# Altium footprint library ELP.PcbLib: 7 footprints
Each footprint in its own frame and in the unit in brackets; x right, y up, seen from the top. Pads: shape width x height; smd on the part's side, far side on the other; paste and mask are expansions set on the pad; w line width, h text height; cw(c..) or ccw(c..) is an arc to the next point about the centre after c.
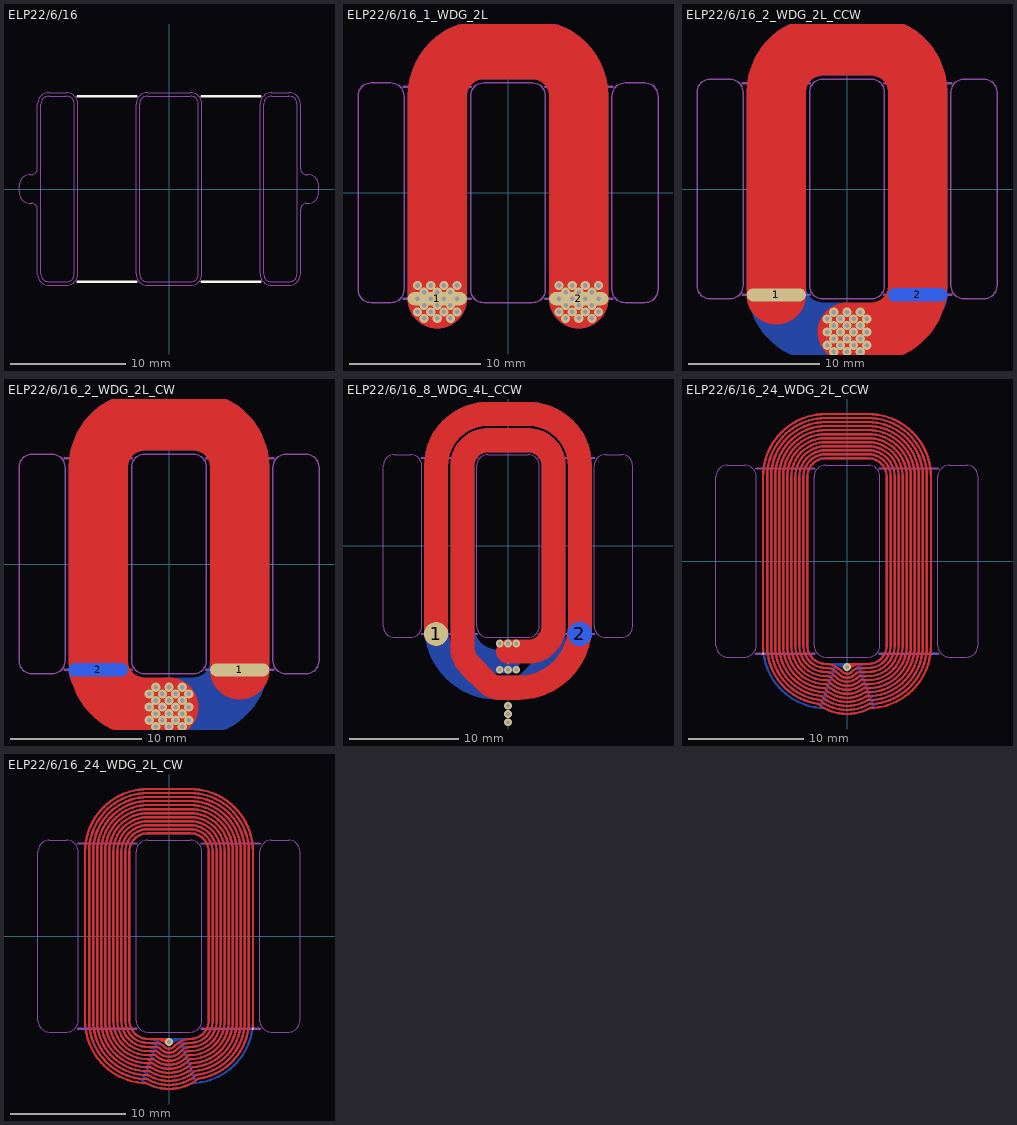
[diagram p0: the footprints below, top view; thin cyan lines are the x and y axes]

## ELP22/6/16 [mm]
Top Overlay:
  lines w0.2: -7.9,-8.05 -2.85,-8.05 ; -7.9,8.05 -2.85,8.05 ; 2.85,-8.05 7.9,-8.05 ; 2.85,8.05 7.9,8.05
Board:
  lines w0.1: -13,-0.252 -13,0.25 cw(c-12,0.25) -12,1.25 -11.9,1.25 ccw(c-11.9,1.75) -11.4,1.75 -11.4,7.35 cw(c-10.4,7.35) -10.4,8.35 -8.9,8.35 cw(c-8.9,7.35) -7.9,7.35 -7.9,-7.35 cw(c-8.9,-7.35) -8.9,-8.35 -10.4,-8.35 cw(c-10.4,-7.35) -11.4,-7.35 -11.4,-1.75 ccw(c-11.9,-1.75) -11.9,-1.25 -12,-1.25 cw(c-12,-0.25) -13,-0.25 ; 13,-0.252 13,0.25 ccw(c12,0.25) 12,1.25 11.9,1.25 cw(c11.9,1.75) 11.4,1.75 11.4,7.35 ccw(c10.4,7.35) 10.4,8.35 8.9,8.35 ccw(c8.9,7.35) 7.9,7.35 7.9,-7.35 ccw(c8.9,-7.35) 8.9,-8.35 10.4,-8.35 ccw(c10.4,-7.35) 11.4,-7.35 11.4,-1.75 cw(c11.9,-1.75) 11.9,-1.25 12,-1.25 ccw(c12,-0.25) 13,-0.25 ; -2.85,-7.35 ccw(c-1.85,-7.35) -1.85,-8.35 1.85,-8.35 ccw(c1.85,-7.35) 2.85,-7.35 2.85,7.35 ccw(c1.85,7.35) 1.85,8.35 -1.85,8.35 ccw(c-1.85,7.35) -2.85,7.35 -2.85,-7.35
  text "CUTOUT" at -8.689,-5.497 h3
  text "CUTOUT" at 10.611,-5.497 h3
  text "CUTOUT" at 0.961,-5.497 h3
Top Assembly:
  lines w0.1: -11.1,-7.35 ccw(c-10.4,-7.35) -10.4,-8.05 -8.9,-8.05 ccw(c-8.9,-7.35) -8.2,-7.35 -8.2,7.35 ccw(c-8.9,7.35) -8.9,8.05 -10.4,8.05 ccw(c-10.4,7.35) -11.1,7.35 -11.1,-7.35 ; -2.55,-7.35 ccw(c-1.85,-7.35) -1.85,-8.05 1.85,-8.05 ccw(c1.85,-7.35) 2.55,-7.35 2.55,7.35 ccw(c1.85,7.35) 1.85,8.05 -1.85,8.05 ccw(c-1.85,7.35) -2.55,7.35 -2.55,-7.35 ; 8.2,-7.35 ccw(c8.9,-7.35) 8.9,-8.05 10.4,-8.05 ccw(c10.4,-7.35) 11.1,-7.35 11.1,7.35 ccw(c10.4,7.35) 10.4,8.05 8.9,8.05 ccw(c8.9,7.35) 8.2,7.35 8.2,-7.35
3D body: height 0, standoff -3.1, extent -11.1,-8.05 -8.2,8.05
3D body: height 0, standoff -3.1, extent -2.55,-8.05 2.55,8.05
3D body: height 0, standoff -3.1, extent 8.2,-8.05 11.1,8.05
3D body: height -3.1, standoff -5.8, extent -11.1,-8.05 11.1,8.05

## ELP22/6/16_1_WDG_2L [mm]
pads (2):
  oval 4.5x1 smd: 1(-5.375,-8.05) 2(5.375,-8.05)
via -5.375,-8.55 diameter 0.7 hole 0.35
via -4.375,-8.55 diameter 0.7 hole 0.35
via -6.375,-8.55 diameter 0.7 hole 0.35
via -6.875,-8.05 diameter 0.7 hole 0.35
via -5.875,-8.05 diameter 0.7 hole 0.35
via -4.875,-8.05 diameter 0.7 hole 0.35
via -3.875,-8.05 diameter 0.7 hole 0.35
via -3.875,-9.05 diameter 0.7 hole 0.35
via -4.875,-9.05 diameter 0.7 hole 0.35
via -5.875,-9.05 diameter 0.7 hole 0.35
via -6.875,-9.05 diameter 0.7 hole 0.35
via -6.375,-9.55 diameter 0.7 hole 0.35
via -5.375,-9.55 diameter 0.7 hole 0.35
via -4.375,-9.55 diameter 0.7 hole 0.35
via -4.375,-7.55 diameter 0.7 hole 0.35
via -5.375,-7.55 diameter 0.7 hole 0.35
via -6.375,-7.55 diameter 0.7 hole 0.35
via -6.875,-7.05 diameter 0.7 hole 0.35
via -5.875,-7.05 diameter 0.7 hole 0.35
via -4.875,-7.05 diameter 0.7 hole 0.35
via -3.875,-7.05 diameter 0.7 hole 0.35
via 5.375,-8.55 diameter 0.7 hole 0.35
via 6.375,-8.55 diameter 0.7 hole 0.35
via 4.375,-8.55 diameter 0.7 hole 0.35
via 3.875,-8.05 diameter 0.7 hole 0.35
via 4.875,-8.05 diameter 0.7 hole 0.35
via 5.875,-8.05 diameter 0.7 hole 0.35
via 6.875,-8.05 diameter 0.7 hole 0.35
via 6.875,-9.05 diameter 0.7 hole 0.35
via 5.875,-9.05 diameter 0.7 hole 0.35
via 4.875,-9.05 diameter 0.7 hole 0.35
via 3.875,-9.05 diameter 0.7 hole 0.35
via 4.375,-9.55 diameter 0.7 hole 0.35
via 5.375,-9.55 diameter 0.7 hole 0.35
via 6.375,-9.55 diameter 0.7 hole 0.35
via 6.375,-7.55 diameter 0.7 hole 0.35
via 5.375,-7.55 diameter 0.7 hole 0.35
via 4.375,-7.55 diameter 0.7 hole 0.35
via 3.875,-7.05 diameter 0.7 hole 0.35
via 4.875,-7.05 diameter 0.7 hole 0.35
via 5.875,-7.05 diameter 0.7 hole 0.35
via 6.875,-7.05 diameter 0.7 hole 0.35
Top Layer:
  lines w4.5: -5.375,-8.05 -5.375,7.35 cw(c-1.85,7.35) -1.85,10.875 1.85,10.875 cw(c1.85,7.35) 5.375,7.35 5.375,-8.05
Bottom Layer:
  lines w4.5: -5.375,-8.05 -5.375,7.35 cw(c-1.85,7.35) -1.85,10.875 1.85,10.875 cw(c1.85,7.35) 5.375,7.35 5.375,-8.05
Top Assembly:
  lines w0.1: -11.4,-7.35 ccw(c-10.4,-7.35) -10.4,-8.35 -8.9,-8.35 ccw(c-8.9,-7.35) -7.9,-7.35 -7.9,7.35 ccw(c-8.9,7.35) -8.9,8.35 -10.4,8.35 ccw(c-10.4,7.35) -11.4,7.35 -11.4,-7.35 ; -2.85,-7.35 ccw(c-1.85,-7.35) -1.85,-8.35 1.85,-8.35 ccw(c1.85,-7.35) 2.85,-7.35 2.85,7.35 ccw(c1.85,7.35) 1.85,8.35 -1.85,8.35 ccw(c-1.85,7.35) -2.85,7.35 -2.85,-7.35 ; 7.9,-7.35 ccw(c8.9,-7.35) 8.9,-8.35 10.4,-8.35 ccw(c10.4,-7.35) 11.4,-7.35 11.4,7.35 ccw(c10.4,7.35) 10.4,8.35 8.9,8.35 ccw(c8.9,7.35) 7.9,7.35 7.9,-7.35
  lines w0.2: -7.9,-8.05 -2.85,-8.05 ; -7.9,8.05 -2.85,8.05 ; 2.85,-8.05 7.9,-8.05 ; 2.85,8.05 7.9,8.05

## ELP22/6/16_2_WDG_2L_CCW [mm]
pads (2):
  oval 4.5x1 smd: 1(-5.375,-8.05)
  oval 4.5x1 smd far side: 2(5.375,-8.05)
via 1.5,-9.875 diameter 0.7 hole 0.35
via 1.5,-10.875 diameter 0.7 hole 0.35
via 1.5,-11.875 diameter 0.7 hole 0.35
via 1,-12.375 diameter 0.7 hole 0.35
via 1,-11.375 diameter 0.7 hole 0.35
via 1,-10.375 diameter 0.7 hole 0.35
via 1,-9.375 diameter 0.7 hole 0.35
via 0.5,-9.875 diameter 0.7 hole 0.35
via 0.5,-10.875 diameter 0.7 hole 0.35
via 0.5,-11.875 diameter 0.7 hole 0.35
via -1.5,-11.875 diameter 0.7 hole 0.35
via -1.5,-10.875 diameter 0.7 hole 0.35
via -1.5,-9.875 diameter 0.7 hole 0.35
via -1,-9.375 diameter 0.7 hole 0.35
via -1,-10.375 diameter 0.7 hole 0.35
via -1,-11.375 diameter 0.7 hole 0.35
via -1,-12.375 diameter 0.7 hole 0.35
via 0,-12.375 diameter 0.7 hole 0.35
via 0,-11.375 diameter 0.7 hole 0.35
via 0,-10.375 diameter 0.7 hole 0.35
via 0,-9.375 diameter 0.7 hole 0.35
via -0.5,-9.875 diameter 0.7 hole 0.35
via -0.5,-11.875 diameter 0.7 hole 0.35
via -0.5,-10.875 diameter 0.7 hole 0.35
Top Layer:
  lines w4.5: -5.375,-8.05 -5.375,7.35 cw(c-1.85,7.35) -1.85,10.875 1.85,10.875 cw(c1.85,7.35) 5.375,7.35 5.375,-7.35 cw(c1.85,-7.35) 1.85,-10.875 0,-10.875
Bottom Layer:
  lines w4.5: 0,-10.875 -1.85,-10.875 cw(c-1.85,-7.35) -5.375,-7.35 -5.375,7.35 cw(c-1.85,7.35) -1.85,10.875 1.85,10.875 cw(c1.85,7.35) 5.375,7.35 5.375,-8.05
Top Assembly:
  lines w0.1: -11.4,-7.35 ccw(c-10.4,-7.35) -10.4,-8.35 -8.9,-8.35 ccw(c-8.9,-7.35) -7.9,-7.35 -7.9,7.35 ccw(c-8.9,7.35) -8.9,8.35 -10.4,8.35 ccw(c-10.4,7.35) -11.4,7.35 -11.4,-7.35 ; -2.85,-7.35 ccw(c-1.85,-7.35) -1.85,-8.35 1.85,-8.35 ccw(c1.85,-7.35) 2.85,-7.35 2.85,7.35 ccw(c1.85,7.35) 1.85,8.35 -1.85,8.35 ccw(c-1.85,7.35) -2.85,7.35 -2.85,-7.35 ; 7.9,-7.35 ccw(c8.9,-7.35) 8.9,-8.35 10.4,-8.35 ccw(c10.4,-7.35) 11.4,-7.35 11.4,7.35 ccw(c10.4,7.35) 10.4,8.35 8.9,8.35 ccw(c8.9,7.35) 7.9,7.35 7.9,-7.35
  lines w0.2: -7.9,-8.05 -2.85,-8.05 ; -7.9,8.05 -2.85,8.05 ; 2.85,-8.05 7.9,-8.05 ; 2.85,8.05 7.9,8.05

## ELP22/6/16_2_WDG_2L_CW [mm]
pads (2):
  oval 4.5x1 smd: 1(5.375,-8.05)
  oval 4.5x1 smd far side: 2(-5.375,-8.05)
via -0.5,-10.875 diameter 0.7 hole 0.35
via -0.5,-11.875 diameter 0.7 hole 0.35
via -0.5,-9.875 diameter 0.7 hole 0.35
via 0,-9.375 diameter 0.7 hole 0.35
via 0,-10.375 diameter 0.7 hole 0.35
via 0,-11.375 diameter 0.7 hole 0.35
via 0,-12.375 diameter 0.7 hole 0.35
via -1,-12.375 diameter 0.7 hole 0.35
via -1,-11.375 diameter 0.7 hole 0.35
via -1,-10.375 diameter 0.7 hole 0.35
via -1,-9.375 diameter 0.7 hole 0.35
via -1.5,-9.875 diameter 0.7 hole 0.35
via -1.5,-10.875 diameter 0.7 hole 0.35
via -1.5,-11.875 diameter 0.7 hole 0.35
via 0.5,-11.875 diameter 0.7 hole 0.35
via 0.5,-10.875 diameter 0.7 hole 0.35
via 0.5,-9.875 diameter 0.7 hole 0.35
via 1,-9.375 diameter 0.7 hole 0.35
via 1,-10.375 diameter 0.7 hole 0.35
via 1,-11.375 diameter 0.7 hole 0.35
via 1,-12.375 diameter 0.7 hole 0.35
via 1.5,-11.875 diameter 0.7 hole 0.35
via 1.5,-10.875 diameter 0.7 hole 0.35
via 1.5,-9.875 diameter 0.7 hole 0.35
Top Layer:
  lines w4.5: 0,-10.875 -1.85,-10.875 cw(c-1.85,-7.35) -5.375,-7.35 -5.375,7.35 cw(c-1.85,7.35) -1.85,10.875 1.85,10.875 cw(c1.85,7.35) 5.375,7.35 5.375,-8.05
Bottom Layer:
  lines w4.5: -5.375,-8.05 -5.375,7.35 cw(c-1.85,7.35) -1.85,10.875 1.85,10.875 cw(c1.85,7.35) 5.375,7.35 5.375,-7.35 cw(c1.85,-7.35) 1.85,-10.875 0,-10.875
Top Assembly:
  lines w0.1: -11.4,-7.35 ccw(c-10.4,-7.35) -10.4,-8.35 -8.9,-8.35 ccw(c-8.9,-7.35) -7.9,-7.35 -7.9,7.35 ccw(c-8.9,7.35) -8.9,8.35 -10.4,8.35 ccw(c-10.4,7.35) -11.4,7.35 -11.4,-7.35 ; -2.85,-7.35 ccw(c-1.85,-7.35) -1.85,-8.35 1.85,-8.35 ccw(c1.85,-7.35) 2.85,-7.35 2.85,7.35 ccw(c1.85,7.35) 1.85,8.35 -1.85,8.35 ccw(c-1.85,7.35) -2.85,7.35 -2.85,-7.35 ; 7.9,-7.35 ccw(c8.9,-7.35) 8.9,-8.35 10.4,-8.35 ccw(c10.4,-7.35) 11.4,-7.35 11.4,7.35 ccw(c10.4,7.35) 10.4,8.35 8.9,8.35 ccw(c8.9,7.35) 7.9,7.35 7.9,-7.35
  lines w0.2: -7.9,-8.05 -2.85,-8.05 ; -7.9,8.05 -2.85,8.05 ; 2.85,-8.05 7.9,-8.05 ; 2.85,8.05 7.9,8.05

## ELP22/6/16_8_WDG_4L_CCW [mm]
pads (2):
  round 2.2 smd paste-2539.97 mask+0.102: 1(-6.575,-8.05)
  round 2.2 smd far side paste-2539.97 mask+0.102: 2(6.575,-8.05)
via 0,-8.925 diameter 0.7 hole 0.35
via 0.75,-8.925 diameter 0.7 hole 0.35
via -0.75,-8.925 diameter 0.7 hole 0.35
via 0,-14.625 diameter 0.7 hole 0.35
via 0,-15.375 diameter 0.7 hole 0.35
via 0,-16.125 diameter 0.7 hole 0.35
via 0,-11.325 diameter 0.7 hole 0.35
via -0.75,-11.325 diameter 0.7 hole 0.35
via 0.75,-11.325 diameter 0.7 hole 0.35
Top Layer:
  lines w2.2: -6.575,-8.05 -6.575,7.35 cw(c-1.85,7.35) -1.85,12.075 1.85,12.075 cw(c1.85,7.35) 6.575,7.35 6.575,-7.35 cw(c0.95,-7.35) 0.95,-12.975 -0.75,-12.975 cw(c-0.75,-11.325) -1.917,-12.492 -3.494,-10.914 cw(c-1.85,-9.27) -4.175,-9.27 -4.175,7.35 cw(c-1.85,7.35) -1.85,9.675 1.85,9.675 cw(c1.85,7.35) 4.175,7.35 4.175,-7.35 cw(c1.85,-7.35) 1.85,-9.675 0,-9.675
Layer 1:
  lines w2.2: 0,-15.375 0.75,-15.375 ccw(c0.75,-11.325) 3.614,-14.189 5.191,-12.611 ccw(c1.85,-9.27) 6.575,-9.27 6.575,7.35 ccw(c1.85,7.35) 1.85,12.075 -1.85,12.075 ccw(c-1.85,7.35) -6.575,7.35 -6.575,-7.35 ccw(c-0.95,-7.35) -0.95,-12.975 0.75,-12.975 ccw(c0.75,-11.325) 1.917,-12.492 3.494,-10.914 ccw(c1.85,-9.27) 4.175,-9.27 4.175,7.35 ccw(c1.85,7.35) 1.85,9.675 -1.85,9.675 ccw(c-1.85,7.35) -4.175,7.35 -4.175,-7.35 ccw(c-1.85,-7.35) -1.85,-9.675 0.75,-9.675
Layer 2:
  lines w2.2: 0,-15.375 -0.75,-15.375 cw(c-0.75,-11.325) -3.614,-14.189 -5.191,-12.611 cw(c-1.85,-9.27) -6.575,-9.27 -6.575,7.35 cw(c-1.85,7.35) -1.85,12.075 1.85,12.075 cw(c1.85,7.35) 6.575,7.35 6.575,-7.35 cw(c0.95,-7.35) 0.95,-12.975 -0.75,-12.975 cw(c-0.75,-11.325) -1.917,-12.492 -3.494,-10.914 cw(c-1.85,-9.27) -4.175,-9.27 -4.175,7.35 cw(c-1.85,7.35) -1.85,9.675 1.85,9.675 cw(c1.85,7.35) 4.175,7.35 4.175,-7.35 cw(c0.95,-7.35) 0.95,-10.575 0,-10.575
Bottom Layer:
  lines w2.2: 0,-10.575 -0.95,-10.575 cw(c-0.95,-7.35) -4.175,-7.35 -4.175,7.35 cw(c-1.85,7.35) -1.85,9.675 1.85,9.675 cw(c1.85,7.35) 4.175,7.35 4.175,-9.27 cw(c1.85,-9.27) 3.494,-10.914 1.917,-12.492 cw(c0.75,-11.325) 0.75,-12.975 -0.95,-12.975 cw(c-0.95,-7.35) -6.575,-7.35 -6.575,7.35 cw(c-1.85,7.35) -1.85,12.075 1.85,12.075 cw(c1.85,7.35) 6.575,7.35 6.575,-8.05
Top Assembly:
  lines w0.1: -11.4,-7.35 ccw(c-10.4,-7.35) -10.4,-8.35 -8.9,-8.35 ccw(c-8.9,-7.35) -7.9,-7.35 -7.9,7.35 ccw(c-8.9,7.35) -8.9,8.35 -10.4,8.35 ccw(c-10.4,7.35) -11.4,7.35 -11.4,-7.35 ; -2.85,-7.35 ccw(c-1.85,-7.35) -1.85,-8.35 1.85,-8.35 ccw(c1.85,-7.35) 2.85,-7.35 2.85,7.35 ccw(c1.85,7.35) 1.85,8.35 -1.85,8.35 ccw(c-1.85,7.35) -2.85,7.35 -2.85,-7.35 ; 7.9,-7.35 ccw(c8.9,-7.35) 8.9,-8.35 10.4,-8.35 ccw(c10.4,-7.35) 11.4,-7.35 11.4,7.35 ccw(c10.4,7.35) 10.4,8.35 8.9,8.35 ccw(c8.9,7.35) 7.9,7.35 7.9,-7.35
  lines w0.2: -7.9,-8.05 -2.85,-8.05 ; -7.9,8.05 -2.85,8.05 ; 2.85,-8.05 7.9,-8.05 ; 2.85,8.05 7.9,8.05

## ELP22/6/16_24_WDG_2L_CCW [mm]
pads (2):
  round 0.2 smd paste-2539.97 mask+0.102: 1(-7.3,-8.05)
  round 0.2 smd far side paste-2539.97 mask+0.102: 2(7.575,-8.05)
via 0,-9.2 diameter 0.7 hole 0.35
Top Layer:
  lines w0.2: -7.3,-8.05 -7.3,7.35 cw(c-1.85,7.35) -1.85,12.8 1.85,12.8 cw(c1.85,7.35) 7.3,7.35 7.3,-7.35 cw(c1.85,-7.35) 1.964,-12.799 cw(c0,-9.2) -2.563,-12.4 cw(c-1.85,-7.35) -6.95,-7.35 -6.95,7.35 cw(c-1.85,7.35) -1.85,12.45 1.85,12.45 cw(c1.85,7.35) 6.95,7.35 6.95,-7.35 cw(c1.85,-7.35) 1.871,-12.45 cw(c0,-9.2) -2.419,-12.066 cw(c-1.85,-7.35) -6.6,-7.35 -6.6,7.35 cw(c-1.85,7.35) -1.85,12.1 1.85,12.1 cw(c1.85,7.35) 6.6,7.35 6.6,-7.35 cw(c1.85,-7.35) 1.85,-12.1 1.775,-12.1 cw(c0,-9.2) -2.272,-11.73 cw(c-1.85,-7.35) -6.25,-7.35 -6.25,7.35 cw(c-1.85,7.35) -1.85,11.75 1.85,11.75 cw(c1.85,7.35) 6.25,7.35 6.25,-7.35 cw(c1.85,-7.35) 1.85,-11.75 1.673,-11.75 cw(c0,-9.2) -2.122,-11.391 cw(c-1.85,-7.35) -5.9,-7.35 -5.9,7.35 cw(c-1.85,7.35) -1.85,11.4 1.85,11.4 cw(c1.85,7.35) 5.9,7.35 5.9,-7.35 cw(c1.85,-7.35) 1.85,-11.4 1.565,-11.4 cw(c0,-9.2) -1.909,-11.109 -1.97,-11.048 cw(c-1.85,-7.35) -5.55,-7.35 -5.55,7.35 cw(c-1.85,7.35) -1.85,11.05 1.85,11.05 cw(c1.85,7.35) 5.55,7.35 5.55,-7.35 cw(c1.85,-7.35) 1.85,-11.05 1.449,-11.05 cw(c0,-9.2) -1.662,-10.862 -1.805,-10.719 ccw(c-1.85,-10.764) -1.85,-10.7 cw(c-1.85,-7.35) -5.2,-7.35 -5.2,7.35 cw(c-1.85,7.35) -1.85,10.7 1.85,10.7 cw(c1.85,7.35) 5.2,7.35 5.2,-7.35 cw(c1.85,-7.35) 1.85,-10.7 1.323,-10.7 cw(c0,-9.2) -1.414,-10.614 -1.546,-10.482 ccw(c-1.85,-10.764) -1.85,-10.35 cw(c-1.85,-7.35) -4.85,-7.35 -4.85,7.35 cw(c-1.85,7.35) -1.85,10.35 1.85,10.35 cw(c1.85,7.35) 4.85,7.35 4.85,-7.35 cw(c1.85,-7.35) 1.85,-10.35 1.183,-10.35 ; 0.177,-9.377 cw(c1.207,-10.407) 1.207,-8.95 ; 0.475,-8.95 0.225,-9.2 0,-9.2 ; 1.207,-10.35 ccw(c1.207,-10.407) 1.167,-10.367 cw(c0,-9.2) -1.167,-10.367 -1.31,-10.224 ccw(c-1.85,-10.764) -1.85,-10 cw(c-1.85,-7.35) -4.5,-7.35 -4.5,7.35 cw(c-1.85,7.35) -1.85,10 1.85,10 cw(c1.85,7.35) 4.5,7.35 4.5,-7.35 cw(c1.85,-7.35) 1.85,-10 1.207,-10 ccw(c1.207,-10.407) 0.919,-10.119 cw(c0,-9.2) -0.919,-10.119 -1.062,-9.976 ccw(c-1.85,-10.764) -1.85,-9.65 cw(c-1.85,-7.35) -4.15,-7.35 -4.15,7.35 cw(c-1.85,7.35) -1.85,9.65 1.85,9.65 cw(c1.85,7.35) 4.15,7.35 4.15,-7.35 cw(c1.85,-7.35) 1.85,-9.65 1.207,-9.65 ccw(c1.207,-10.407) 0.672,-9.872 cw(c0,-9.2) -0.672,-9.872 -0.815,-9.729 ccw(c-1.85,-10.764) -1.85,-9.3 cw(c-1.85,-7.35) -3.8,-7.35 -3.8,7.35 cw(c-1.85,7.35) -1.85,9.3 1.85,9.3 cw(c1.85,7.35) 3.8,7.35 3.8,-7.35 cw(c1.85,-7.35) 1.85,-9.3 1.207,-9.3 ccw(c1.207,-10.407) 0.424,-9.624 cw(c0,-9.2) -0.424,-9.624 -0.567,-9.481 ccw(c-1.85,-10.764) -1.85,-8.95 cw(c-1.85,-7.35) -3.45,-7.35 -3.45,7.35 cw(c-1.85,7.35) -1.85,8.95 1.85,8.95 cw(c1.85,7.35) 3.45,7.35 3.45,-7.35 cw(c1.85,-7.35) 1.85,-8.95 0.25,-8.95 ; 0,-9.2 0,-8.95 0.25,-8.95 ; 0,-9.2 0.25,-8.95
Bottom Layer:
  lines w0.2: -1.207,-10.35 cw(c-1.207,-10.407) -1.167,-10.367 ccw(c0,-9.2) 1.167,-10.367 1.31,-10.224 cw(c1.85,-10.764) 1.85,-10 ccw(c1.85,-7.35) 4.5,-7.35 4.5,7.35 ccw(c1.85,7.35) 1.85,10 -1.85,10 ccw(c-1.85,7.35) -4.5,7.35 -4.5,-7.35 ccw(c-1.85,-7.35) -1.85,-10 -1.207,-10 cw(c-1.207,-10.407) -0.919,-10.119 ccw(c0,-9.2) 0.919,-10.119 1.062,-9.976 cw(c1.85,-10.764) 1.85,-9.65 ccw(c1.85,-7.35) 4.15,-7.35 4.15,7.35 ccw(c1.85,7.35) 1.85,9.65 -1.85,9.65 ccw(c-1.85,7.35) -4.15,7.35 -4.15,-7.35 ccw(c-1.85,-7.35) -1.85,-9.65 -1.207,-9.65 cw(c-1.207,-10.407) -0.672,-9.872 ccw(c0,-9.2) 0.672,-9.872 0.815,-9.729 cw(c1.85,-10.764) 1.85,-9.3 ccw(c1.85,-7.35) 3.8,-7.35 3.8,7.35 ccw(c1.85,7.35) 1.85,9.3 -1.85,9.3 ccw(c-1.85,7.35) -3.8,7.35 -3.8,-7.35 ccw(c-1.85,-7.35) -1.85,-9.3 -1.207,-9.3 cw(c-1.207,-10.407) -0.424,-9.624 ccw(c0,-9.2) 0.424,-9.624 0.567,-9.481 cw(c1.85,-10.764) 1.85,-8.95 ccw(c1.85,-7.35) 3.45,-7.35 3.45,7.35 ccw(c1.85,7.35) 1.85,8.95 -1.85,8.95 ccw(c-1.85,7.35) -3.45,7.35 -3.45,-7.35 ccw(c-1.85,-7.35) -1.85,-8.95 -0.25,-8.95 ; -1.207,-8.95 cw(c-1.207,-10.407) -0.177,-9.377 ; -1.183,-10.35 -1.85,-10.35 cw(c-1.85,-7.35) -4.85,-7.35 -4.85,7.35 cw(c-1.85,7.35) -1.85,10.35 1.85,10.35 cw(c1.85,7.35) 4.85,7.35 4.85,-7.35 cw(c1.85,-7.35) 1.85,-10.35 ccw(c1.85,-10.764) 1.547,-10.482 1.414,-10.614 cw(c0,-9.2) -1.323,-10.7 -1.85,-10.7 cw(c-1.85,-7.35) -5.2,-7.35 -5.2,7.35 cw(c-1.85,7.35) -1.85,10.7 1.85,10.7 cw(c1.85,7.35) 5.2,7.35 5.2,-7.35 cw(c1.85,-7.35) 1.85,-10.7 ccw(c1.85,-10.764) 1.805,-10.719 1.662,-10.862 cw(c0,-9.2) -1.449,-11.05 -1.85,-11.05 cw(c-1.85,-7.35) -5.55,-7.35 -5.55,7.35 cw(c-1.85,7.35) -1.85,11.05 1.85,11.05 cw(c1.85,7.35) 5.55,7.35 5.55,-7.35 cw(c1.85,-7.35) 1.97,-11.048 1.909,-11.109 cw(c0,-9.2) -1.565,-11.4 -1.85,-11.4 cw(c-1.85,-7.35) -5.9,-7.35 -5.9,7.35 cw(c-1.85,7.35) -1.85,11.4 1.85,11.4 cw(c1.85,7.35) 5.9,7.35 5.9,-7.35 cw(c1.85,-7.35) 2.122,-11.391 cw(c0,-9.2) -1.673,-11.75 -1.85,-11.75 cw(c-1.85,-7.35) -6.25,-7.35 -6.25,7.35 cw(c-1.85,7.35) -1.85,11.75 1.85,11.75 cw(c1.85,7.35) 6.25,7.35 6.25,-7.35 cw(c1.85,-7.35) 2.272,-11.73 cw(c0,-9.2) -1.775,-12.1 -1.85,-12.1 cw(c-1.85,-7.35) -6.6,-7.35 -6.6,7.35 cw(c-1.85,7.35) -1.85,12.1 1.85,12.1 cw(c1.85,7.35) 6.6,7.35 6.6,-7.35 cw(c1.85,-7.35) 2.419,-12.066 cw(c0,-9.2) -1.871,-12.45 cw(c-1.85,-7.35) -6.95,-7.35 -6.95,7.35 cw(c-1.85,7.35) -1.85,12.45 1.85,12.45 cw(c1.85,7.35) 6.95,7.35 6.95,-7.35 cw(c1.85,-7.35) 2.563,-12.4 cw(c0,-9.2) -1.964,-12.799 cw(c-1.85,-7.35) -7.3,-7.35 -7.3,7.35 cw(c-1.85,7.35) -1.85,12.8 1.85,12.8 cw(c1.85,7.35) 7.3,7.35 7.3,-8.05 ; -0.475,-8.95 -0.225,-9.2 0,-9.2 ; -0.25,-8.95 0,-8.95 0,-9.2 ; -0.25,-8.95 0,-9.2
Top Assembly:
  lines w0.1: -11.4,-7.35 ccw(c-10.4,-7.35) -10.4,-8.35 -8.9,-8.35 ccw(c-8.9,-7.35) -7.9,-7.35 -7.9,7.35 ccw(c-8.9,7.35) -8.9,8.35 -10.4,8.35 ccw(c-10.4,7.35) -11.4,7.35 -11.4,-7.35 ; -2.85,-7.35 ccw(c-1.85,-7.35) -1.85,-8.35 1.85,-8.35 ccw(c1.85,-7.35) 2.85,-7.35 2.85,7.35 ccw(c1.85,7.35) 1.85,8.35 -1.85,8.35 ccw(c-1.85,7.35) -2.85,7.35 -2.85,-7.35 ; 7.9,-7.35 ccw(c8.9,-7.35) 8.9,-8.35 10.4,-8.35 ccw(c10.4,-7.35) 11.4,-7.35 11.4,7.35 ccw(c10.4,7.35) 10.4,8.35 8.9,8.35 ccw(c8.9,7.35) 7.9,7.35 7.9,-7.35
  lines w0.2: -7.9,-8.05 -2.85,-8.05 ; -7.9,8.05 -2.85,8.05 ; 2.85,-8.05 7.9,-8.05 ; 2.85,8.05 7.9,8.05

## ELP22/6/16_24_WDG_2L_CW [mm]
pads (2):
  round 0.2 smd paste-2539.97 mask+0.102: 1(7.3,-8.05)
  round 0.2 smd far side paste-2539.97 mask+0.102: 2(-7.3,-8.05)
via 0,-9.2 diameter 0.7 hole 0.35
Top Layer:
  lines w0.2: -1.207,-10.35 cw(c-1.207,-10.407) -1.167,-10.367 ccw(c0,-9.2) 1.167,-10.367 1.31,-10.224 cw(c1.85,-10.764) 1.85,-10 ccw(c1.85,-7.35) 4.5,-7.35 4.5,7.35 ccw(c1.85,7.35) 1.85,10 -1.85,10 ccw(c-1.85,7.35) -4.5,7.35 -4.5,-7.35 ccw(c-1.85,-7.35) -1.85,-10 -1.207,-10 cw(c-1.207,-10.407) -0.919,-10.119 ccw(c0,-9.2) 0.919,-10.119 1.062,-9.976 cw(c1.85,-10.764) 1.85,-9.65 ccw(c1.85,-7.35) 4.15,-7.35 4.15,7.35 ccw(c1.85,7.35) 1.85,9.65 -1.85,9.65 ccw(c-1.85,7.35) -4.15,7.35 -4.15,-7.35 ccw(c-1.85,-7.35) -1.85,-9.65 -1.207,-9.65 cw(c-1.207,-10.407) -0.672,-9.872 ccw(c0,-9.2) 0.672,-9.872 0.815,-9.729 cw(c1.85,-10.764) 1.85,-9.3 ccw(c1.85,-7.35) 3.8,-7.35 3.8,7.35 ccw(c1.85,7.35) 1.85,9.3 -1.85,9.3 ccw(c-1.85,7.35) -3.8,7.35 -3.8,-7.35 ccw(c-1.85,-7.35) -1.85,-9.3 -1.207,-9.3 cw(c-1.207,-10.407) -0.424,-9.624 ccw(c0,-9.2) 0.424,-9.624 0.567,-9.481 cw(c1.85,-10.764) 1.85,-8.95 ccw(c1.85,-7.35) 3.45,-7.35 3.45,7.35 ccw(c1.85,7.35) 1.85,8.95 -1.85,8.95 ccw(c-1.85,7.35) -3.45,7.35 -3.45,-7.35 ccw(c-1.85,-7.35) -1.85,-8.95 -0.25,-8.95 ; -1.207,-8.95 cw(c-1.207,-10.407) -0.177,-9.377 ; -1.183,-10.35 -1.85,-10.35 cw(c-1.85,-7.35) -4.85,-7.35 -4.85,7.35 cw(c-1.85,7.35) -1.85,10.35 1.85,10.35 cw(c1.85,7.35) 4.85,7.35 4.85,-7.35 cw(c1.85,-7.35) 1.85,-10.35 ccw(c1.85,-10.764) 1.547,-10.482 1.414,-10.614 cw(c0,-9.2) -1.323,-10.7 -1.85,-10.7 cw(c-1.85,-7.35) -5.2,-7.35 -5.2,7.35 cw(c-1.85,7.35) -1.85,10.7 1.85,10.7 cw(c1.85,7.35) 5.2,7.35 5.2,-7.35 cw(c1.85,-7.35) 1.85,-10.7 ccw(c1.85,-10.764) 1.805,-10.719 1.662,-10.862 cw(c0,-9.2) -1.449,-11.05 -1.85,-11.05 cw(c-1.85,-7.35) -5.55,-7.35 -5.55,7.35 cw(c-1.85,7.35) -1.85,11.05 1.85,11.05 cw(c1.85,7.35) 5.55,7.35 5.55,-7.35 cw(c1.85,-7.35) 1.97,-11.048 1.909,-11.109 cw(c0,-9.2) -1.565,-11.4 -1.85,-11.4 cw(c-1.85,-7.35) -5.9,-7.35 -5.9,7.35 cw(c-1.85,7.35) -1.85,11.4 1.85,11.4 cw(c1.85,7.35) 5.9,7.35 5.9,-7.35 cw(c1.85,-7.35) 2.122,-11.391 cw(c0,-9.2) -1.673,-11.75 -1.85,-11.75 cw(c-1.85,-7.35) -6.25,-7.35 -6.25,7.35 cw(c-1.85,7.35) -1.85,11.75 1.85,11.75 cw(c1.85,7.35) 6.25,7.35 6.25,-7.35 cw(c1.85,-7.35) 2.272,-11.73 cw(c0,-9.2) -1.775,-12.1 -1.85,-12.1 cw(c-1.85,-7.35) -6.6,-7.35 -6.6,7.35 cw(c-1.85,7.35) -1.85,12.1 1.85,12.1 cw(c1.85,7.35) 6.6,7.35 6.6,-7.35 cw(c1.85,-7.35) 2.419,-12.066 cw(c0,-9.2) -1.871,-12.45 cw(c-1.85,-7.35) -6.95,-7.35 -6.95,7.35 cw(c-1.85,7.35) -1.85,12.45 1.85,12.45 cw(c1.85,7.35) 6.95,7.35 6.95,-7.35 cw(c1.85,-7.35) 2.563,-12.4 cw(c0,-9.2) -1.964,-12.799 cw(c-1.85,-7.35) -7.3,-7.35 -7.3,7.35 cw(c-1.85,7.35) -1.85,12.8 1.85,12.8 cw(c1.85,7.35) 7.3,7.35 7.3,-8.05 ; -0.475,-8.95 -0.225,-9.2 0,-9.2 ; -0.25,-8.95 0,-8.95 0,-9.2 ; -0.25,-8.95 0,-9.2
Bottom Layer:
  lines w0.2: -7.3,-8.05 -7.3,7.35 cw(c-1.85,7.35) -1.85,12.8 1.85,12.8 cw(c1.85,7.35) 7.3,7.35 7.3,-7.35 cw(c1.85,-7.35) 1.964,-12.799 cw(c0,-9.2) -2.563,-12.4 cw(c-1.85,-7.35) -6.95,-7.35 -6.95,7.35 cw(c-1.85,7.35) -1.85,12.45 1.85,12.45 cw(c1.85,7.35) 6.95,7.35 6.95,-7.35 cw(c1.85,-7.35) 1.871,-12.45 cw(c0,-9.2) -2.419,-12.066 cw(c-1.85,-7.35) -6.6,-7.35 -6.6,7.35 cw(c-1.85,7.35) -1.85,12.1 1.85,12.1 cw(c1.85,7.35) 6.6,7.35 6.6,-7.35 cw(c1.85,-7.35) 1.85,-12.1 1.775,-12.1 cw(c0,-9.2) -2.272,-11.73 cw(c-1.85,-7.35) -6.25,-7.35 -6.25,7.35 cw(c-1.85,7.35) -1.85,11.75 1.85,11.75 cw(c1.85,7.35) 6.25,7.35 6.25,-7.35 cw(c1.85,-7.35) 1.85,-11.75 1.673,-11.75 cw(c0,-9.2) -2.122,-11.391 cw(c-1.85,-7.35) -5.9,-7.35 -5.9,7.35 cw(c-1.85,7.35) -1.85,11.4 1.85,11.4 cw(c1.85,7.35) 5.9,7.35 5.9,-7.35 cw(c1.85,-7.35) 1.85,-11.4 1.565,-11.4 cw(c0,-9.2) -1.909,-11.109 -1.97,-11.048 cw(c-1.85,-7.35) -5.55,-7.35 -5.55,7.35 cw(c-1.85,7.35) -1.85,11.05 1.85,11.05 cw(c1.85,7.35) 5.55,7.35 5.55,-7.35 cw(c1.85,-7.35) 1.85,-11.05 1.449,-11.05 cw(c0,-9.2) -1.662,-10.862 -1.805,-10.719 ccw(c-1.85,-10.764) -1.85,-10.7 cw(c-1.85,-7.35) -5.2,-7.35 -5.2,7.35 cw(c-1.85,7.35) -1.85,10.7 1.85,10.7 cw(c1.85,7.35) 5.2,7.35 5.2,-7.35 cw(c1.85,-7.35) 1.85,-10.7 1.323,-10.7 cw(c0,-9.2) -1.414,-10.614 -1.546,-10.482 ccw(c-1.85,-10.764) -1.85,-10.35 cw(c-1.85,-7.35) -4.85,-7.35 -4.85,7.35 cw(c-1.85,7.35) -1.85,10.35 1.85,10.35 cw(c1.85,7.35) 4.85,7.35 4.85,-7.35 cw(c1.85,-7.35) 1.85,-10.35 1.183,-10.35 ; 0.177,-9.377 cw(c1.207,-10.407) 1.207,-8.95 ; 0.475,-8.95 0.225,-9.2 0,-9.2 ; 1.207,-10.35 ccw(c1.207,-10.407) 1.167,-10.367 cw(c0,-9.2) -1.167,-10.367 -1.31,-10.224 ccw(c-1.85,-10.764) -1.85,-10 cw(c-1.85,-7.35) -4.5,-7.35 -4.5,7.35 cw(c-1.85,7.35) -1.85,10 1.85,10 cw(c1.85,7.35) 4.5,7.35 4.5,-7.35 cw(c1.85,-7.35) 1.85,-10 1.207,-10 ccw(c1.207,-10.407) 0.919,-10.119 cw(c0,-9.2) -0.919,-10.119 -1.062,-9.976 ccw(c-1.85,-10.764) -1.85,-9.65 cw(c-1.85,-7.35) -4.15,-7.35 -4.15,7.35 cw(c-1.85,7.35) -1.85,9.65 1.85,9.65 cw(c1.85,7.35) 4.15,7.35 4.15,-7.35 cw(c1.85,-7.35) 1.85,-9.65 1.207,-9.65 ccw(c1.207,-10.407) 0.672,-9.872 cw(c0,-9.2) -0.672,-9.872 -0.815,-9.729 ccw(c-1.85,-10.764) -1.85,-9.3 cw(c-1.85,-7.35) -3.8,-7.35 -3.8,7.35 cw(c-1.85,7.35) -1.85,9.3 1.85,9.3 cw(c1.85,7.35) 3.8,7.35 3.8,-7.35 cw(c1.85,-7.35) 1.85,-9.3 1.207,-9.3 ccw(c1.207,-10.407) 0.424,-9.624 cw(c0,-9.2) -0.424,-9.624 -0.567,-9.481 ccw(c-1.85,-10.764) -1.85,-8.95 cw(c-1.85,-7.35) -3.45,-7.35 -3.45,7.35 cw(c-1.85,7.35) -1.85,8.95 1.85,8.95 cw(c1.85,7.35) 3.45,7.35 3.45,-7.35 cw(c1.85,-7.35) 1.85,-8.95 0.25,-8.95 ; 0,-9.2 0,-8.95 0.25,-8.95 ; 0,-9.2 0.25,-8.95
Top Assembly:
  lines w0.1: -11.4,-7.35 ccw(c-10.4,-7.35) -10.4,-8.35 -8.9,-8.35 ccw(c-8.9,-7.35) -7.9,-7.35 -7.9,7.35 ccw(c-8.9,7.35) -8.9,8.35 -10.4,8.35 ccw(c-10.4,7.35) -11.4,7.35 -11.4,-7.35 ; -2.85,-7.35 ccw(c-1.85,-7.35) -1.85,-8.35 1.85,-8.35 ccw(c1.85,-7.35) 2.85,-7.35 2.85,7.35 ccw(c1.85,7.35) 1.85,8.35 -1.85,8.35 ccw(c-1.85,7.35) -2.85,7.35 -2.85,-7.35 ; 7.9,-7.35 ccw(c8.9,-7.35) 8.9,-8.35 10.4,-8.35 ccw(c10.4,-7.35) 11.4,-7.35 11.4,7.35 ccw(c10.4,7.35) 10.4,8.35 8.9,8.35 ccw(c8.9,7.35) 7.9,7.35 7.9,-7.35
  lines w0.2: -7.9,-8.05 -2.85,-8.05 ; -7.9,8.05 -2.85,8.05 ; 2.85,-8.05 7.9,-8.05 ; 2.85,8.05 7.9,8.05